# EAGLE library part CTCON (library custom-2002)
Conector compatible CT
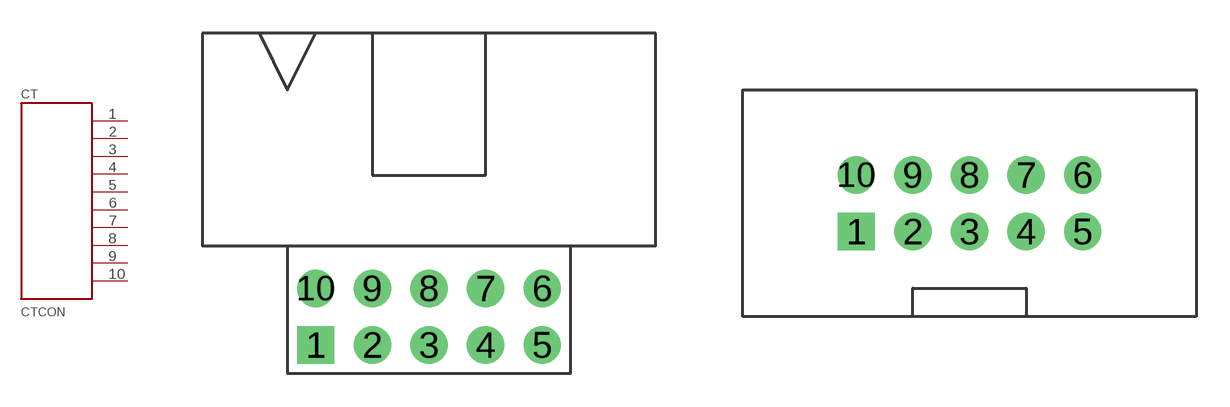
[diagram p0: symbol with the pads of CTCON; footprints CTCON, CTCONC]

Designator prefix CT

## CTCONA  [CTCON]
1  1
2  2
3  3
4  4
5  5
6  6
7  7
8  8
9  9
10  10

## CTCONR  [CTCONC]
Pads as for CTCON

## Footprint CTCON (pad centres in mm)
Conector compatible CT
drill 1.016 pad 1.676 square: 1 0,0
drill 1.016 pad 1.676 round: 2 2.54,0; 3 5.08,0; 4 7.62,0; 5 10.16,0; 6 10.16,2.54; 7 7.62,2.54; 8 5.08,2.54; 9 2.54,2.54; 10 0,2.54

## Footprint CTCONC (pad centres in mm)
drill 1.016 pad 1.676 square: 1 0,0
drill 1.016 pad 1.676 round: 2 2.54,0; 3 5.08,0; 4 7.62,0; 5 10.16,0; 6 10.16,2.54; 7 7.62,2.54; 8 5.08,2.54; 9 2.54,2.54; 10 0,2.54